# EAGLE library part NB7V52MMNG (library NB7V52MMNG)
Flip Flop D-Type Pos-Edge/Neg-Edge 1-Element 16-Pin QFN EP Rail Source: Datasheet <https://www.onsemi.com/pdf/datasheet/nb7v52m-d.pdf>
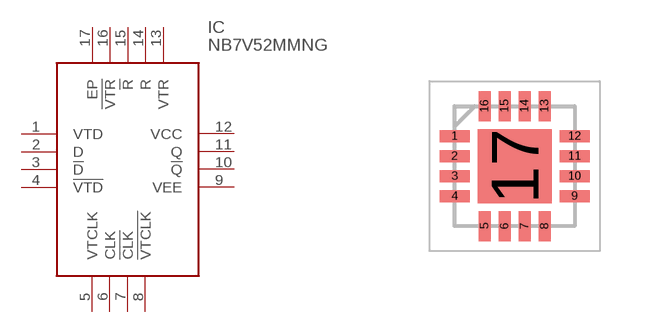
[diagram p0: symbol with the pads of QFN50P300X300X100-17N; footprint QFN50P300X300X100-17N]

Designator prefix IC

## NB7V52MMNG (Arrow_Part_Number: NB7V52MMNG; Arrow_Price-Stock: https://www.arrow.com/en/products/nb7v52mmng/on-semiconductor; Description: Flip Flop D-Type Pos-Edge/Neg-Edge 1-Element 16-Pin QFN EP Rail; Height: 1mm; Manufacturer_Name: onsemi; Manufacturer_Part_Number: NB7V52MMNG; Mouser_Part_Number: 863-NB7V52MMNG; Mouser_Price-Stock: https://www.mouser.co.uk/ProductDetail/ON-Semiconductor/NB7V52MMNG?qs=N5dOQkml4H8i91m%252BmwlaUQ%3D%3D)  [QFN50P300X300X100-17N]
1  VTD
2  D
3  !D
4  !VTD
5  VTCLK
6  CLK
7  !CLK
8  !VTCLK
9  VEE
10  !Q
11  Q
12  VCC
13  VTR
14  R
15  !R
16  !VTR
17  EP

## Footprint QFN50P300X300X100-17N (pad centres in mm)
QFN16 3x3, 0.5P CASE 485G ISSUE G
smd 0.75 x 0.3: 1 -1.5,0.75; 2 -1.5,0.25; 3 -1.5,-0.25; 4 -1.5,-0.75; 9 1.5,-0.75; 10 1.5,-0.25; 11 1.5,0.25; 12 1.5,0.75
smd 0.3 x 0.75: 5 -0.75,-1.5; 6 -0.25,-1.5; 7 0.25,-1.5; 8 0.75,-1.5; 13 0.75,1.5; 14 0.25,1.5; 15 -0.25,1.5; 16 -0.75,1.5
smd 1.85 x 1.85: 17 0,0